# Altium footprint library 872642052.PcbLib: 1 footprints
Each footprint in its own frame and in the unit in brackets; x right, y up, seen from the top. Pads: shape width x height; smd on the part's side, far side on the other; paste and mask are expansions set on the pad; w line width, h text height; cw(c..) or ccw(c..) is an arc to the next point about the centre after c.
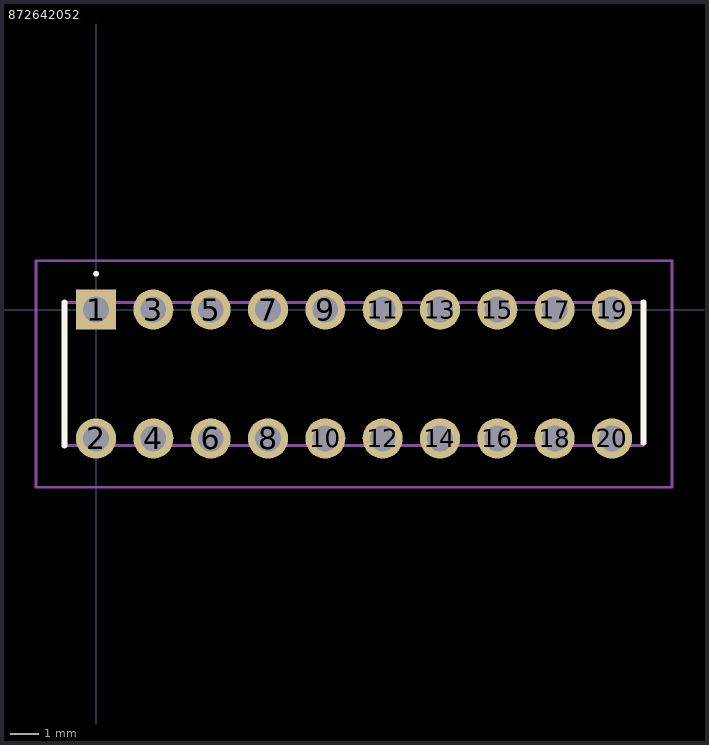
[diagram p0: the footprint, top view; thin cyan lines are the x and y axes]

## 872642052 [mm]
pads (20):
  rect 1.4x1.4 hole 0.9: 1(0,0)
  round 1.4 hole 0.9: 2(0,-4.5) 3(2,0) 4(2,-4.5) 5(4,0) 6(4,-4.5) 7(6,0) 8(6,-4.5) 9(8,0) 10(8,-4.5) 11(10,0) 12(10,-4.5) 13(12,0) 14(12,-4.5) 15(14,0) 16(14,-4.5) 17(16,0) 18(16,-4.5) 19(18,0) 20(18,-4.5)
Top Overlay:
  lines w0.1: 0,1.2 cw(c0,1.25) 0,1.3 cw(c0,1.25) 0,1.2
  lines w0.2: -1.1,-4.75 -1.1,0.25 ; 19.1,-4.65 19.1,0.25
Mechanical 15:
  lines w0.1: -1.1,-4.75 -1.1,0.25 19.1,0.25 19.1,-4.75 -1.1,-4.75
Mechanical 20:
  lines w0.1: -2.1,-6.2 -2.1,1.7 20.1,1.7 20.1,-6.2 -2.1,-6.2
3D body "87264-2052.stp": height 4.5, standoff -2.05, extent -1.083,-4.786 19.117,0.214